# Altium schematic symbol library LOGTURTLE_QFN64_LIB.SchLib: 5 symbols
Pins are listed as number, name and electrical type; pins without a type are passive.

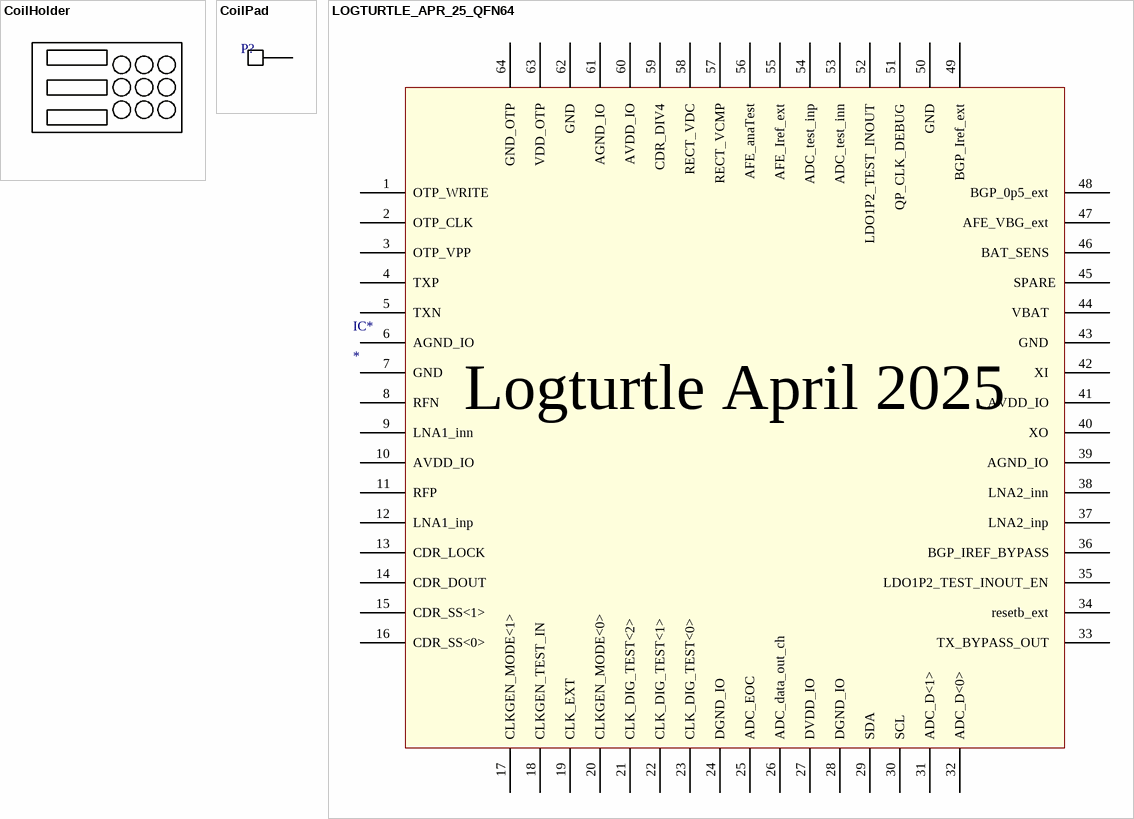
[diagram p0: symbols CoilHolder to LOGTURTLE_APR_25_QFN64]

## CoilHolder
designator ?
footprint CoilHolder
footprint CoilHolder

## CoilPad
designator P?
footprint COILS_PIN
footprint CoilPad
pins: 0

## LOGTURTLE_APR_25_QFN64
designator IC*
pins: 1 OTP_WRITE, 2 OTP_CLK, 3 OTP_VPP, 4 TXP, 5 TXN, 6 AGND_IO, 7 GND, 8 RFN, 9 LNA1_inn, 10 AVDD_IO, 11 RFP, 12 LNA1_inp, 13 CDR_LOCK, 14 CDR_DOUT, 15 CDR_SS<1>, 16 CDR_SS<0>, 17 CLKGEN_MODE<1>  , 18 CLKGEN_TEST_IN  , 19 CLK_EXT  , 20 CLKGEN_MODE<0>  , 21 CLK_DIG_TEST<2>  , 22 CLK_DIG_TEST<1>  , 23 CLK_DIG_TEST<0>  , 24 DGND_IO  , 25 ADC_EOC  , 26 ADC_data_out_ch  , 27 DVDD_IO  , 28 DGND_IO  , 29 SDA  , 30 SCL  , 31 ADC_D<1>  , 32 ADC_D<0>  , 33 TX_BYPASS_OUT  , 34 resetb_ext  , 35 LDO1P2_TEST_INOUT_EN  , 36 BGP_IREF_BYPASS  , 37 LNA2_inp  , 38 LNA2_inn  , 39 AGND_IO  , 40 XO  , 41 AVDD_IO  , 42 XI  , 43 GND  , 44 VBAT  , 45 SPARE, 46 BAT_SENS  , 47 AFE_VBG_ext  , 48 BGP_0p5_ext  , 49 BGP_Iref_ext  , 50 GND  , 51 QP_CLK_DEBUG  , 52 LDO1P2_TEST_INOUT  , 53 ADC_test_inn  , 54 ADC_test_inp  , 55 AFE_Iref_ext  , 56 AFE_anaTest  , 57 RECT_VCMP  , 58 RECT_VDC  , 59 CDR_DIV4  , 60 AVDD_IO  , 61 AGND_IO  , 62 GND  , 63 VDD_OTP  , 64 GND_OTP  
text: Logturtle April 2025

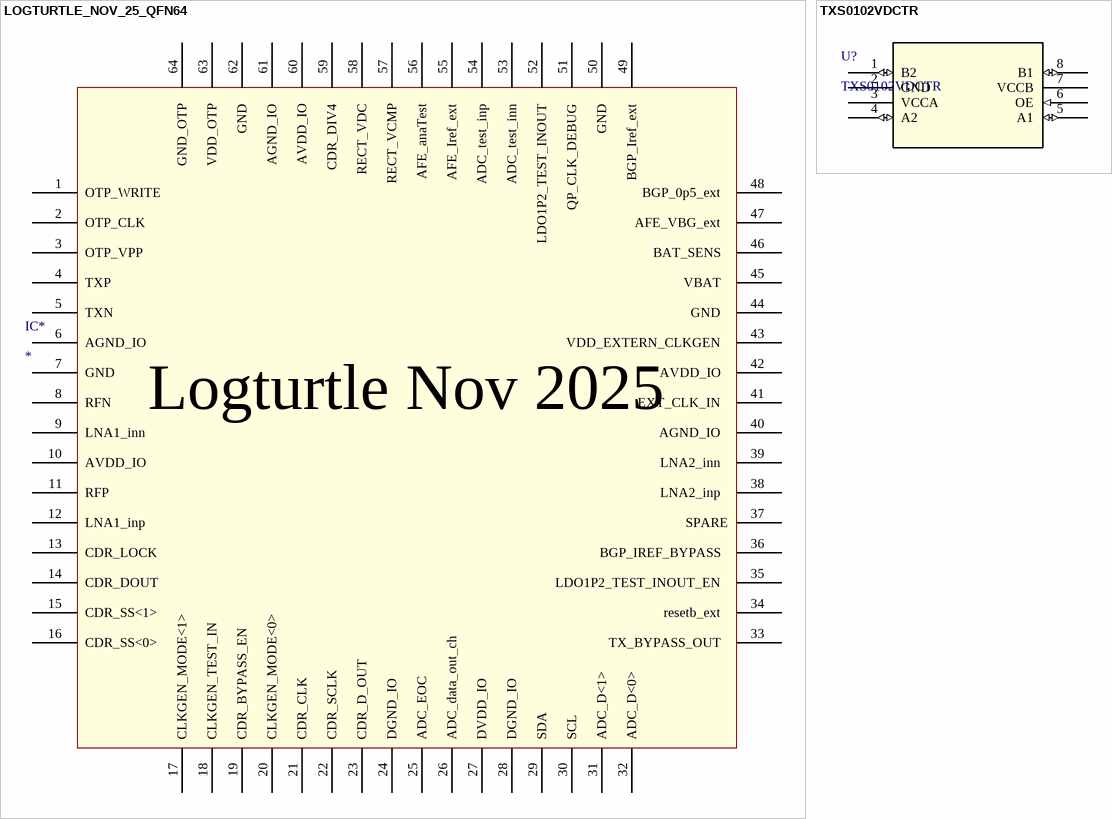
[diagram p1: symbols LOGTURTLE_NOV_25_QFN64 to TXS0102VDCTR]

## LOGTURTLE_NOV_25_QFN64
designator IC*
pins: 1 OTP_WRITE, 2 OTP_CLK, 3 OTP_VPP, 4 TXP, 5 TXN, 6 AGND_IO, 7 GND, 8 RFN, 9 LNA1_inn, 10 AVDD_IO, 11 RFP, 12 LNA1_inp, 13 CDR_LOCK, 14 CDR_DOUT, 15 CDR_SS<1>, 16 CDR_SS<0>, 17 CLKGEN_MODE<1>  , 18 CLKGEN_TEST_IN  , 19 CDR_BYPASS_EN  , 20 CLKGEN_MODE<0>  , 21 CDR_CLK  , 22 CDR_SCLK  , 23 CDR_D_OUT  , 24 DGND_IO  , 25 ADC_EOC  , 26 ADC_data_out_ch  , 27 DVDD_IO  , 28 DGND_IO  , 29 SDA  , 30 SCL  , 31 ADC_D<1>  , 32 ADC_D<0>  , 33 TX_BYPASS_OUT  , 34 resetb_ext  , 35 LDO1P2_TEST_INOUT_EN  , 36 BGP_IREF_BYPASS  , 37 SPARE, 38 LNA2_inp  , 39 LNA2_inn  , 40 AGND_IO  , 41 EXT_CLK_IN  , 42 AVDD_IO  , 43 VDD_EXTERN_CLKGEN  , 44 GND  , 45 VBAT  , 46 BAT_SENS  , 47 AFE_VBG_ext  , 48 BGP_0p5_ext  , 49 BGP_Iref_ext  , 50 GND  , 51 QP_CLK_DEBUG  , 52 LDO1P2_TEST_INOUT  , 53 ADC_test_inn  , 54 ADC_test_inp  , 55 AFE_Iref_ext  , 56 AFE_anaTest  , 57 RECT_VCMP  , 58 RECT_VDC  , 59 CDR_DIV4  , 60 AVDD_IO  , 61 AGND_IO  , 62 GND  , 63 VDD_OTP  , 64 GND_OTP  
text: Logturtle Nov 2025

## TXS0102VDCTR
designator U?
Two-bit bidirectional level shifter for open-drain and push-pull applications 8-SSOP -40 to 85; Manufacturer_Name: Texas Instruments; Copyright: Copyright (C) 2025 Ultra Librarian. All rights reserved.; Manufacturer_Part_Number: TXS0102VDCTR; RefDes: RefDes; Type: Type
footprint SSOP8_DCT_TEX
footprint SSOP8_DCT_TEX
pins: 1 B2 (io), 2 GND (power), 3 VCCA (power), 4 A2 (io), 5 A1 (io), 6 OE (in), 7 VCCB (power), 8 B1 (io)